# Altium footprint library 653108124022.PcbLib: 1 footprints
Each footprint in its own frame and in the unit in brackets; x right, y up, seen from the top. Pads: shape width x height; smd on the part's side, far side on the other; paste and mask are expansions set on the pad; w line width, h text height; cw(c..) or ccw(c..) is an arc to the next point about the centre after c.
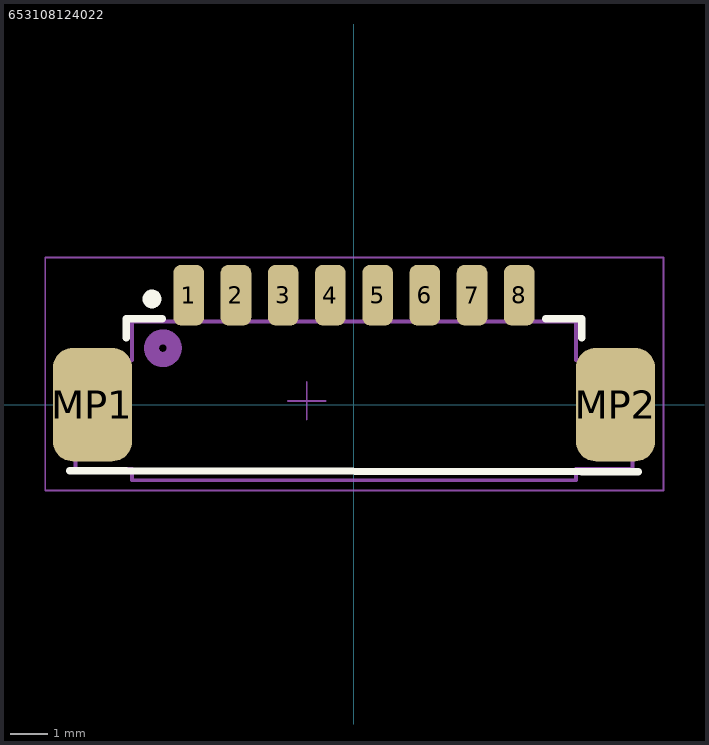
[diagram p0: the footprint, top view; thin cyan lines are the x and y axes]

## 653108124022 [mm]
pads (10):
  rrect50% 0.81x1.6 smd: 1(-4.375,2.9) 2(-3.125,2.9) 3(-1.875,2.9) 4(-0.625,2.9) 5(0.625,2.9) 6(1.875,2.9) 7(3.125,2.9) 8(4.375,2.9)
  rrect50% 2.1x3 smd: MP1(-6.925,0) MP2(6.925,0)
Top Overlay:
  circle w0.25: c-5.35,2.8 r0.125
  lines w0.2: -7.525,-1.75 -6.025,-1.75 6.025,-1.775 7.525,-1.775 ; -6.025,1.775 -6.025,2.275 -5.075,2.275 ; 5.075,2.275 6.025,2.275 6.025,1.775
Top Assembly:
  circle w0.4: c-5.06,1.497 r0.3
  lines w0.1: -7.375,-1.68 -7.375,1.18 -5.875,1.18 -5.875,2.2 5.875,2.2 5.875,1.18 7.375,1.18 7.375,-1.68 ; -7.355,-1.7 -5.875,-1.7 -5.875,-2 5.875,-2 5.875,-1.7 7.355,-1.7
  text "'.Designator'" at -2.8,-0.2 h0.5
Top Courtyard:
  lines w0.05: -1.75,0.1 -0.75,0.1 ; -1.25,-0.4 -1.25,0.6 ; -8.175,-2.275 8.2,-2.275 8.2,3.9 -8.175,3.9 -8.175,-2.275
3D body "653108124022 (rev1) (1).stp": height 4.75, standoff 0, extent -7.475,-1.05 7.475,3.155